# Altium footprint library ARM_10-pin_interface.PcbLib: 1 footprints
Each footprint in its own frame and in the unit in brackets; x right, y up, seen from the top. Pads: shape width x height; smd on the part's side, far side on the other; paste and mask are expansions set on the pad; w line width, h text height; cw(c..) or ccw(c..) is an arc to the next point about the centre after c.
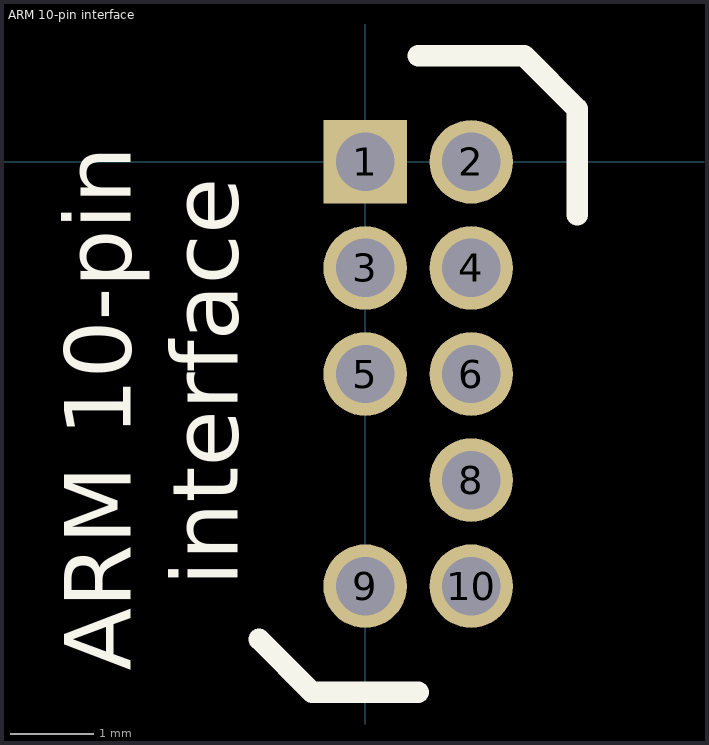
[diagram p0: the footprint, top view; thin cyan lines are the x and y axes]

## ARM 10-pin interface [mm]
pads (9):
  rect 1x1 hole 0.7: 1(0,0)
  round 1 hole 0.7: 2(1.27,0) 3(0,-1.27) 4(1.27,-1.27) 5(0,-2.54) 6(1.27,-2.54) 8(1.27,-3.81) 9(0,-5.08) 10(1.27,-5.08)
Top Overlay:
  lines w0.254: -1.27,-5.715 -0.635,-6.35 0.635,-6.35 ; 0.635,1.27 1.905,1.27 2.54,0.635 2.54,-0.635
  text "interface" at -1.524,-5.08 h0.8
  text "ARM 10-pin" at -2.807,-6.096 h0.8